# Altium footprint library conn_sw.PCBLIB: 173 footprints (part 2 of 11)
Each footprint in its own frame and in the unit in brackets; x right, y up, seen from the top. Pads: shape width x height; smd on the part's side, far side on the other; paste and mask are expansions set on the pad; w line width, h text height; cw(c..) or ccw(c..) is an arc to the next point about the centre after c.
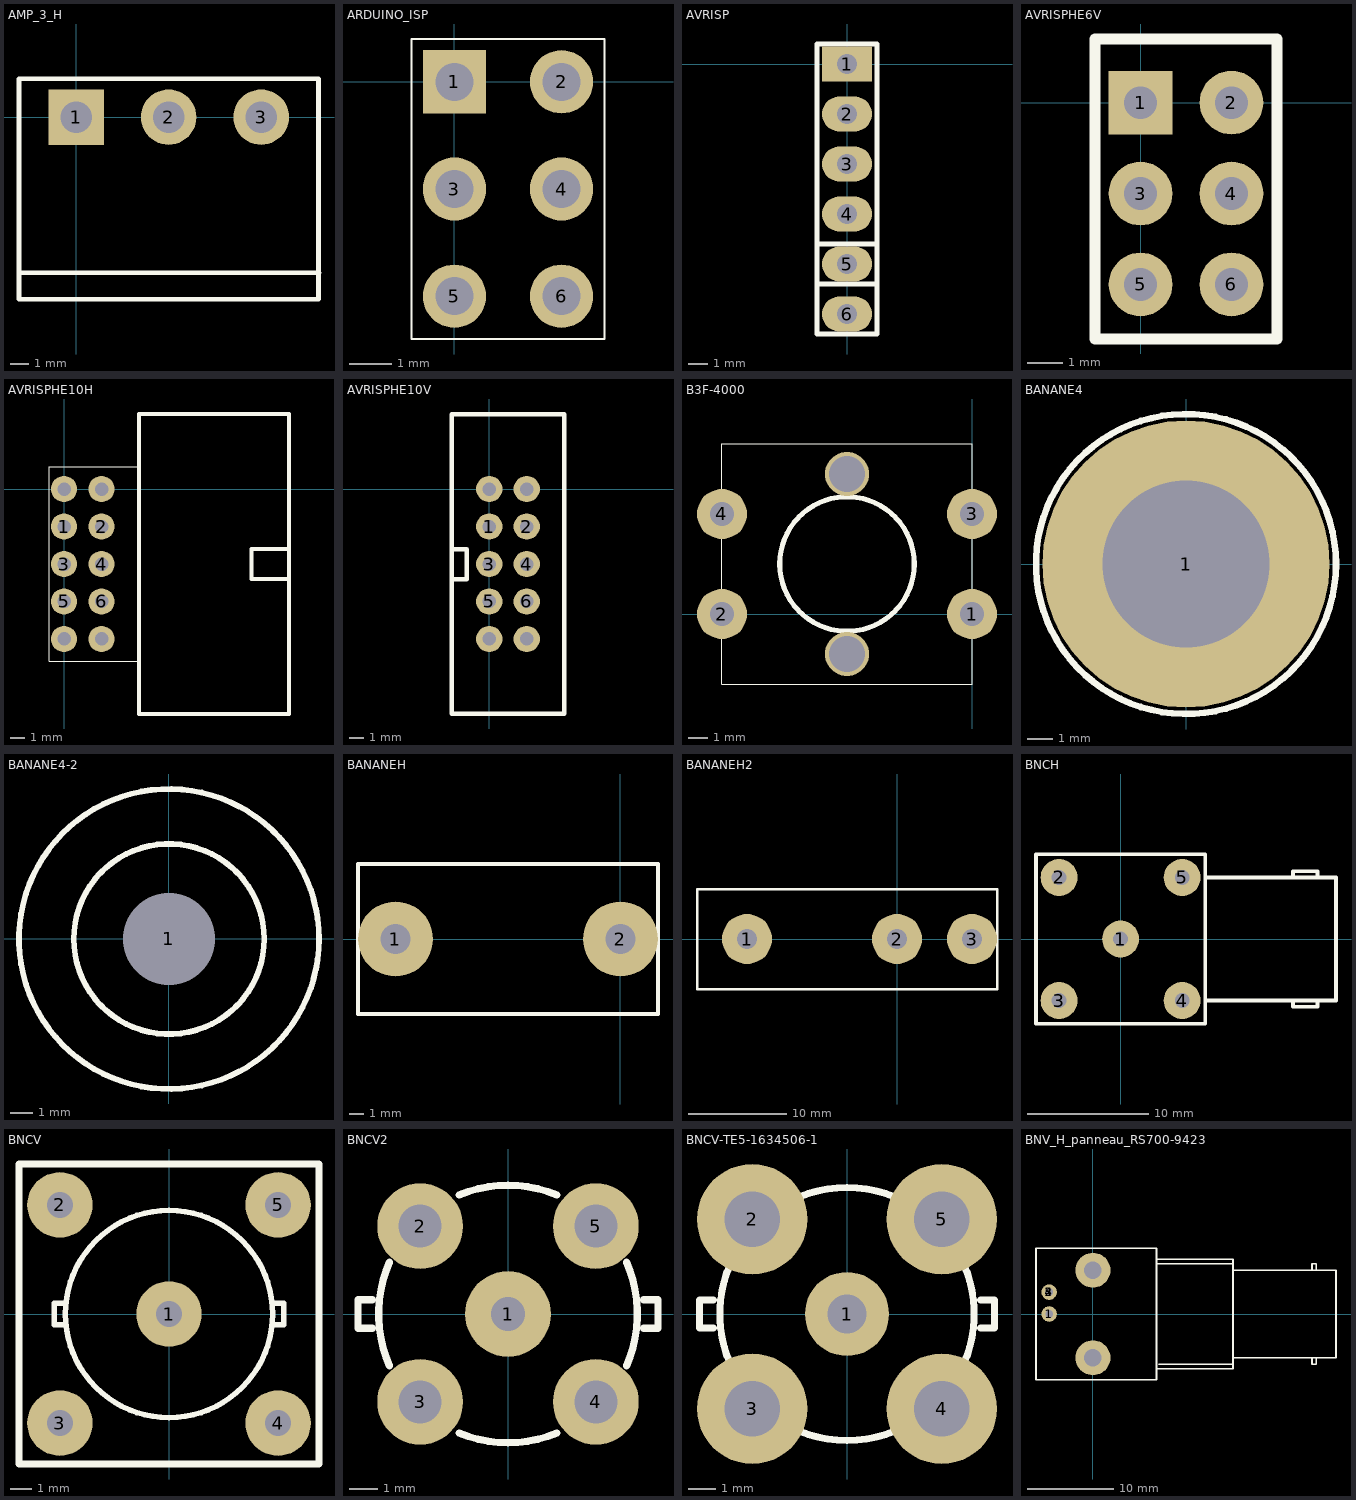
[diagram p1: the footprints below, top view; thin cyan lines are the x and y axes]

## AMP_3_H [mil]
pads (3):
  rect 120x120 hole 68: 1(0,0)
  round 120 hole 68: 2(200,0) 3(400,0)
Top Overlay:
  lines w10: -122.05,-336.61 524.8,-336.61 ; -123.23,-393.31 523.62,-393.31 523.62,82.68 -123.23,82.68 -123.23,-393.31

## ARDUINO_ISP [mm]
pads (6):
  rect 1.5x1.5 hole 0.9: 1(0,0)
  round 1.5 hole 0.9: 2(2.54,0) 3(0,-2.54) 4(2.54,-2.54) 5(0,-5.08) 6(2.54,-5.08)
Top Overlay:
  lines w0.051: -1.016,-6.096 -1.016,1.016 3.556,1.016 3.556,-6.096 -1.016,-6.096

## AVRISP [mil]
pads (6):
  rect 100x70 hole 40: 1(0,0)
  oval 100x70 hole 40: 2(0,-100) 3(0,-200) 4(0,-300) 5(0,-400) 6(0,-500)
Top Overlay:
  lines w10: -60,-440 60,-440 ; -60,-360 60,-360 ; -60,-540 60,-540 60,40 -60,40 -60,-540

## AVRISPHE6V [mil]
pads (6):
  rect 70x70 hole 36: 1(0,0)
  round 70 hole 36: 2(100,0) 3(0,-100) 4(100,-100) 5(0,-200) 6(100,-200)
Top Overlay:
  lines w12: -50,-260 150,-260 150,70 -50,70 -50,-260

## AVRISPHE10H [mil]
pads (10):
  round 70 hole 36: 1(0,-100) 2(100,-100) 3(0,-200) 4(100,-200) 5(0,-300) 6(100,-300) ""(0,-400) ""(0,0) ""(100,-400) ""(100,0)
Top Overlay:
  lines w0.39: 200,-460 -40,-460 -40,60 200,60
  lines w10: 600,-240 500,-240 500,-160 600,-160 ; 200,-600 200,200 600,200 600,-600 200,-600

## AVRISPHE10V [mil]
pads (10):
  round 70 hole 36: 1(0,-100) 2(100,-100) 3(0,-200) 4(100,-200) 5(0,-300) 6(100,-300) ""(0,-400) ""(0,0) ""(100,-400) ""(100,0)
Top Overlay:
  lines w12: -100,-240 -60,-240 -60,-160 -100,-160 ; -100,-600 200,-600 200,200 -100,200 -100,-600

## B3F-4000 [mm]
pads (6):
  round 2.5 hole 1.2: 1(0,0) 2(-12.5,0) 3(0,5) 4(-12.5,5)
  round 2.2 hole 1.8: ""(-6.25,-2) ""(-6.25,7)
Top Overlay:
  circle w0.254: c-6.25,2.5 r3.363
  lines w0.025: -12.5,-3.5 0,-3.5 0,8.5 -12.5,8.5 -12.5,-3.5

## BANANE4 [mil]
pads (1):
  round 440 hole 256: 1(0,0)
Top Overlay:
  circle w10: c0,0 r230

## BANANE4-2 [mil]
pads (1):
  round 70 hole 160: 1(0,0)
Top Overlay:
  circle w10: c0,0 r164.92
  circle w10: c0,0 r260

## BANANEH [mil]
pads (2):
  round 200 hole 80: 1(-600,0) 2(0,0)
Top Overlay:
  lines w10: -700,-200 100,-200 100,200 -700,200 -700,-200

## BANANEH2 [mil]
pads (3):
  round 200 hole 80: 1(-600,0) 2(0,0) 3(300,0)
Top Overlay:
  lines w10: -800,-200 400,-200 400,200 -800,200 -800,-200

## BNCH [mil]
pads (5):
  round 120 hole 48: 1(0,0) 2(-200,200) 3(-200,-200) 4(200,-200) 5(200,200)
Top Overlay:
  lines w12: 280,-200 700,-200 700,200 280,200 ; 560,-200 560,-220 640,-220 640,-200 ; 560,200 560,220 640,220 640,200 ; -275,-275 275,-275 275,275 -275,275 -275,-275

## BNCV [mil]
pads (5):
  round 120 hole 48: 1(0,0) 2(-200,200) 3(-200,-200) 4(200,-200) 5(200,200)
Top Overlay:
  circle w10: c0,0 r190
  lines w10: -190,-20 -210,-20 -210,20 -190,20 ; 190,-20 210,-20 210,20 190,20
  lines w12: -275,-275 -275,275 275,275 275,-275 -275,-275

## BNCV2 [mil]
pads (5):
  round 120 hole 48: 1(0,0)
  round 120 hole 60: 2(-123,123) 3(-123,-123) 4(123,-123) 5(123,123)
Top Overlay:
  lines w10: -190,-20 -210,-20 -210,20 -190,20 ; -165.92,-72.59 cw(c0,0) -165.92,72.59 ; -68.64,-166.7 ccw(c0,0) 68.64,-166.7 ; -68.64,166.7 cw(c0,0) 68.64,166.7 ; 165.92,-72.59 ccw(c0,0) 165.92,72.59 ; 190,-20 210,-20 210,20 190,20

## BNCV-TE5-1634506-1 [mm]
pads (5):
  round 3.048 hole 1.4: 1(0,0)
  round 4 hole 2: 2(-3.43,3.43) 3(-3.43,-3.43) 4(3.43,-3.43) 5(3.43,3.43)
Top Overlay:
  lines w0.254: -4.826,-0.508 -5.334,-0.508 -5.334,0.508 -4.826,0.508 ; -4.214,-1.844 cw(c0,0) -4.214,1.844 ; -1.743,-4.234 ccw(c0,0) 1.743,-4.234 ; -1.743,4.234 cw(c0,0) 1.743,4.234 ; 4.214,-1.844 ccw(c0,0) 4.214,1.844 ; 4.826,-0.508 5.334,-0.508 5.334,0.508 4.826,0.508

## BNV_H_panneau_RS700-9423 [mm]
pads (7):
  round 1.8 hole 0.9: 1(-5.08,0) 2(-5.08,2.54) 3(-5.08,2.54) 4(-5.08,2.54) 5(-5.08,2.54)
  round 4.064 hole 2.032: ""(0,-5.08) ""(0,5.08)
Top Overlay:
  lines w0.2: 7.366,-6.35 16.256,-6.35 16.256,6.35 7.366,6.35 ; 7.366,5.842 16.256,5.842 ; 7.62,-5.842 16.256,-5.842 ; 16.256,-5.08 28.194,-5.08 28.194,5.08 16.256,5.08 ; 25.4,-5.08 25.4,-5.842 25.908,-5.842 25.908,-5.08 ; 25.4,5.08 25.4,5.842 25.908,5.842 25.908,5.08 ; -6.604,-7.62 -6.604,7.62 7.366,7.62 7.366,-7.62 -6.604,-7.62